# Altium footprint library MOSFET.PcbLib: 4 footprints
Each footprint in its own frame and in the unit in brackets; x right, y up, seen from the top. Pads: shape width x height; smd on the part's side, far side on the other; paste and mask are expansions set on the pad; w line width, h text height; cw(c..) or ccw(c..) is an arc to the next point about the centre after c.
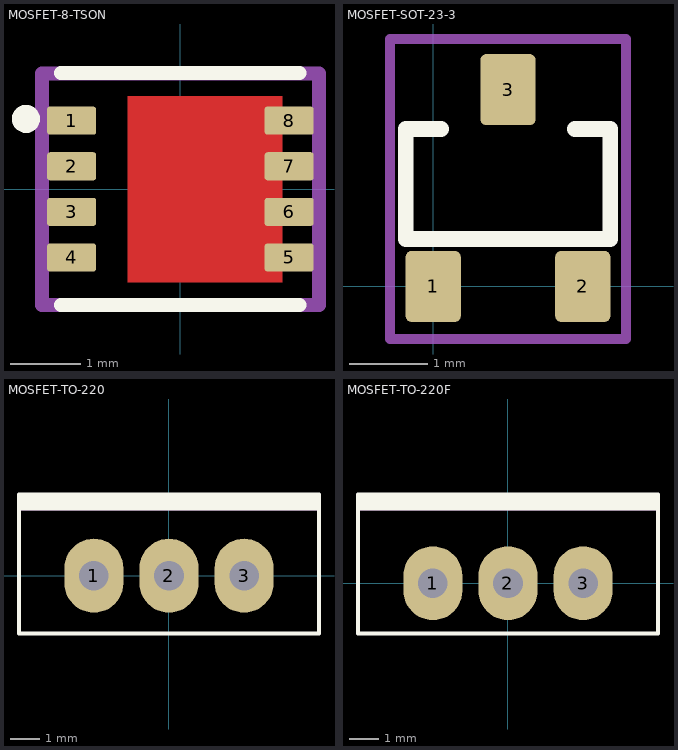
[diagram p0: the footprints below, top view; thin cyan lines are the x and y axes]

## MOSFET-8-TSON [mm] "SON  3.30-mm × 3.30-mm  Plastic Package"
pads (8):
  rrect20% 0.7x0.4 smd: 1(-1.55,0.975) 2(-1.55,0.325) 3(-1.55,-0.325) 4(-1.55,-0.975) 5(1.55,-0.975) 6(1.55,-0.325) 7(1.55,0.325) 8(1.55,0.975)
Top Layer:
  region: -0.75,1.325 1.45,1.325 1.45,-1.325 -0.75,-1.325
Top Overlay:
  circle w0.2: c-2.2,1 r0.1
  lines w0.2: -1.7,-1.65 1.7,-1.65 ; -1.7,1.652 1.7,1.652
Top Paste:
  region: -0.5,-0.2 1.1,-0.2 1.1,-1.1 -0.5,-1.1
  region: -0.5,1.1 1.1,1.1 1.1,0.2 -0.5,0.2
Top Solder:
  region: -0.75,1.325 1.45,1.325 1.45,-1.325 -0.75,-1.325
Mechanical 13:
  lines w0.2: -1.975,-1.65 -1.975,1.65 1.975,1.65 1.975,-1.65 -1.975,-1.65
3D body "SI7216DN-T1-GE3--3DModel-STEP-1.STEP": height 1.12, standoff 0, extent -1.625,-1.65 1.675,1.65

## MOSFET-SOT-23-3 [mm]
pads (3):
  rrect20% 0.7x0.9 smd: 1(0,0) 2(1.9,0) 3(0.95,2.5)
Top Overlay:
  lines w0.2: 0.1,2 -0.35,2 -0.35,0.603 2.25,0.603 2.25,2 1.8,2
Mechanical 13:
  lines w0.127: -0.55,-0.667 2.45,-0.667 2.45,3.143 -0.55,3.143 -0.55,-0.667
3D body "SW3DPS-SOT-23-DEFAULT.STEP": height 1.11, standoff 0.01, extent -0.55,-0.012 2.45,2.488

## MOSFET-TO-220 [mm]
pads (3):
  oval 2x2.5 hole 1 mask+0.075: 1(-2.54,0) 2(0,0) 3(2.54,0)
Top Overlay:
  region: 5.071,2.746 -5.07,2.746 -5.07,2.21 5.071,2.21
  lines w0.12: -5.07,-1.954 -5.07,2.746 5.071,2.746 5.071,-1.954 -5.07,-1.954
Mechanical 13:
  rectangle: -5.07,2.202 5.071,2.746
  lines w0.1: -5.07,-1.954 -5.07,2.746 5.071,2.746 5.071,-1.954 -5.07,-1.954
3D body "FQP30N06L MOSFET With Leads.step": height 19.22, standoff -10.31, extent -5.051,-1.884 5.051,2.672

## MOSFET-TO-220F [mm]
pads (3):
  oval 2x2.5 hole 1 mask+0.075: 1(-2.54,0) 2(0,0) 3(2.54,0)
Top Overlay:
  region: 5.071,3 -5.07,3 -5.07,2.464 5.071,2.464
  lines w0.12: -5.07,-1.7 -5.07,3 5.071,3 5.071,-1.7 -5.07,-1.7
Mechanical 13:
  rectangle: -5.07,2.456 5.071,3
  lines w0.1: -5.07,-1.7 -5.07,3 5.071,3 5.071,-1.7 -5.07,-1.7
3D body "TO-220F Full Pack.step": height 19.07, standoff -10.3, extent -5.07,-1.7 5.071,3